# Altium schematic symbol library LCD,Graphic,OLED,256x64,NHD-2.8-25664UCY2.Schlib: 1 symbol
Pins are listed as number, name and electrical type; pins without a type are passive.

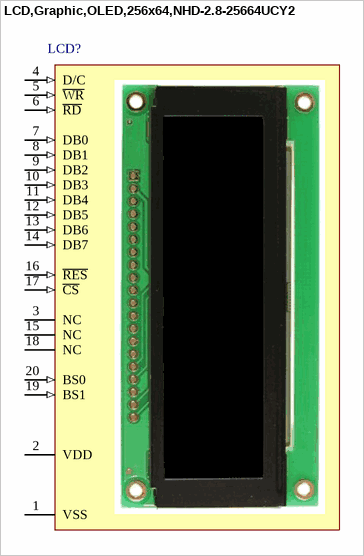
[diagram p0: symbol LCD,Graphic,OLED,256x64,NHD-2.8-25664UCY2]

## LCD,Graphic,OLED,256x64,NHD-2.8-25664UCY2
designator LCD?
pins: 1 VSS (power), 2 VDD (power), 3 NC, 4 D/C (in), 5 ~{WR} (in), 6 ~{RD} (in), 7 DB0 (in), 8 DB1 (in), 9 DB2 (in), 10 DB3 (in), 11 DB4 (in), 12 DB5 (in), 13 DB6 (in), 14 DB7 (in), 15 NC, 16 ~{RES} (in), 17 ~{CS} (in), 18 NC, 19 BS1 (in), 20 BS0 (in)